# Altium schematic symbol library QiTian Mini Remote Control.SchLib: 10 symbols
Pins are listed as number, name and electrical type; pins without a type are passive.

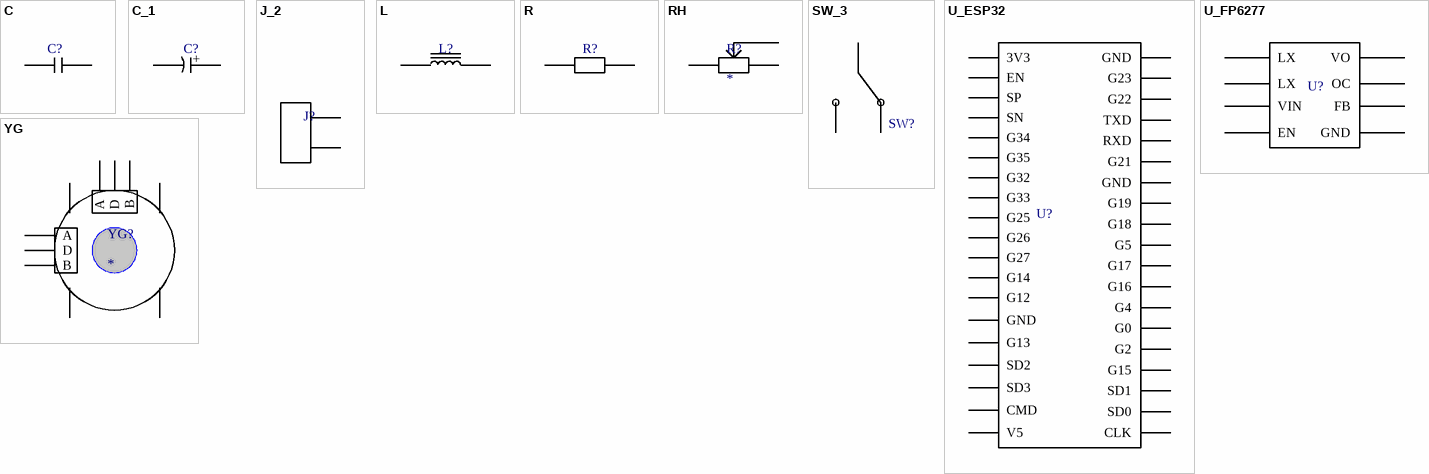
[diagram p0: symbols C to YG]

## C
designator C?
ComponentLink1Description: New link; ComponentLink1URL: *
footprint 0603 (0603封装)
pins: 1, 2

## C_1
designator C?
电解电容
footprint 63_54 (6.3*5.4mm电容)
pins: 1 +, 2 -

## J_2
designator J?
footprint J_2 (2端口接口)
pins: 1, 2

## L
designator L?
footprint 0630
pins: 1, 2

## R
designator R?
footprint 0603 (0603封装)
pins: 1, 2

## RH
designator R?
可调电阻
footprint RH3
pins: 1, 2, 3

## SW_3
designator SW?
三段开关
footprint SW3; pin to pad 1>2 2>1
pins: 1, 2, 3

## U_ESP32
designator U?
ESP32开发底板
footprint ESP32 (ESP 开发底板)
pins: 1 3V3, 2 EN, 3 SP, 4 SN, 5 G34, 6 G35, 7 G32, 8 G33, 9 G25, 10 G26, 11 G27, 12 G14, 13 G12, 14 GND, 15 G13, 16 SD2, 17 SD3, 18 CMD, 19 V5, 20 CLK, 21 SD0, 22 SD1, 23 G15, 24 G2, 25 G0, 26 G4, 27 G16, 28 G17, 29 G5, 30 G18, 31 G19, 32 GND, 33 G21, 34 RXD, 35 TXD, 36 G22, 37 G23, 38 GND

## U_FP6277
designator U?
5V 3A升压芯片
footprint FP6277
pins: 1 LX, 2 LX, 3 VIN, 4 EN, 5 GND, 6 FB, 7 OC, 8 VO

## YG
designator YG?
摇杆
footprint YG
pins: 1 B, 2 D, 3 A, 4 A, 5 D, 6 B, 7, 8, 9, 10